# EAGLE library part A13 (library Allwinner)
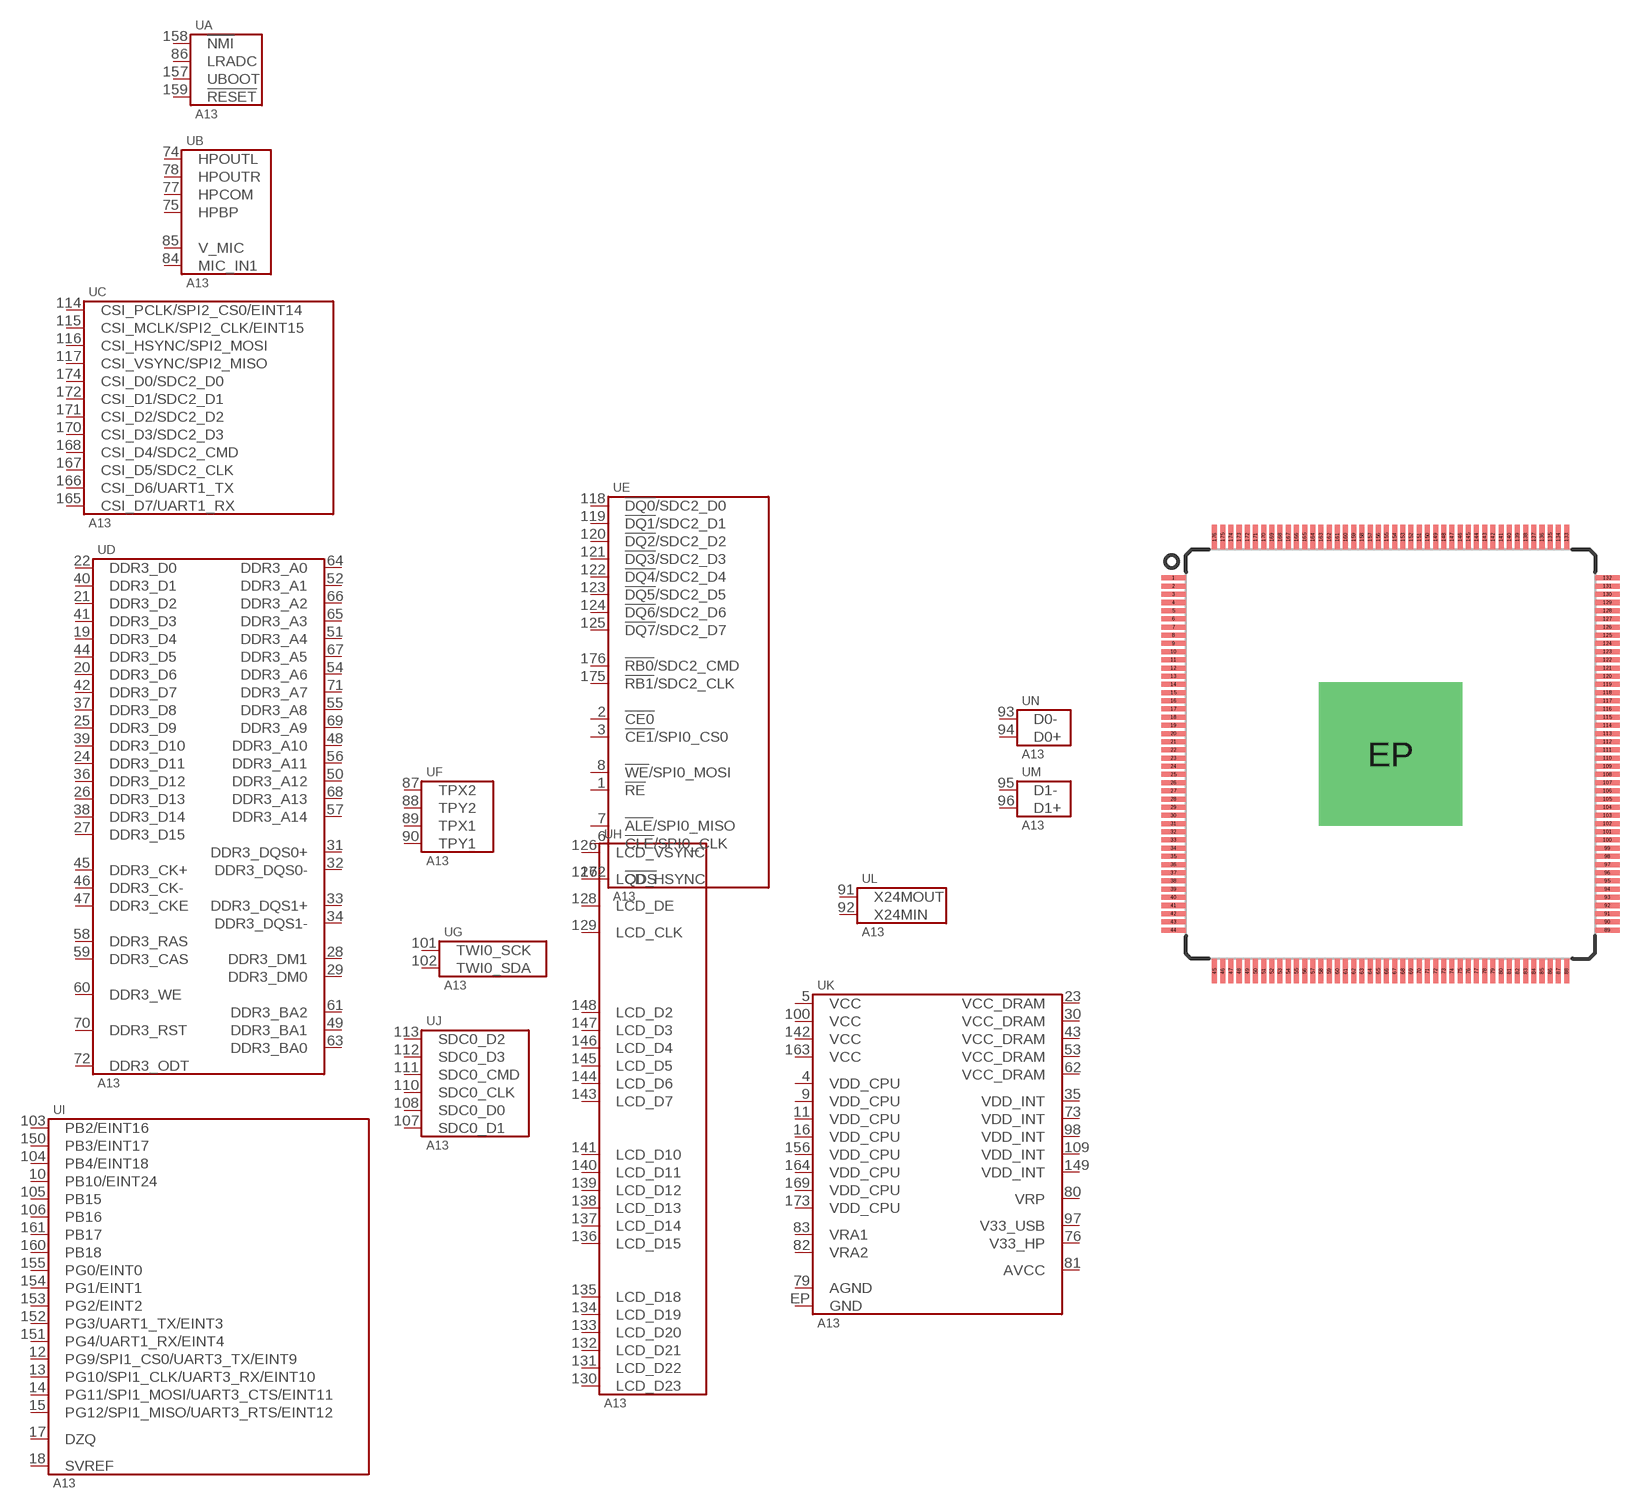
[diagram p0: symbol with the pads of A13; footprint A13]

Designator prefix U; gates A=A13 B=A13-AUDIO C=A13-CSI D=A13-DDR3 I=A13-GPIO G=A13-I2C H=A13-LCD E=A13-NAND L=A13-OSC K=A13-PWR F=A13-RTP J=A13-SDC0 N=A13-USB0 M=A13-USB1

## A13  [A13]
1  E:!RE
2  E:!CE0
3  E:!CE1!/SPI0_CS0
4  K:VDD_CPU
5  K:VCC
6  E:!CLE!/SPI0_CLK
7  E:!ALE!/SPI0_MISO
8  E:!WE!/SPI0_MOSI
9  K:VDD_CPU
10  I:PB10/EINT24
11  K:VDD_CPU
12  I:PG9/SPI1_CS0/UART3_TX/EINT9
13  I:PG10/SPI1_CLK/UART3_RX/EINT10
14  I:PG11/SPI1_MOSI/UART3_CTS/EINT11
15  I:PG12/SPI1_MISO/UART3_RTS/EINT12
16  K:VDD_CPU
17  I:DZQ
18  I:SVREF
19  D:DDR3_D4
20  D:DDR3_D6
21  D:DDR3_D2
22  D:DDR3_D0
23  K:VCC_DRAM
24  D:DDR3_D11
25  D:DDR3_D9
26  D:DDR3_D13
27  D:DDR3_D15
28  D:DDR3_DM1
29  D:DDR3_DM0
30  K:VCC_DRAM
31  D:DDR3_DQS0+
32  D:DDR3_DQS0-
33  D:DDR3_DQS1+
34  D:DDR3_DQS1-
35  K:VDD_INT
36  D:DDR3_D12
37  D:DDR3_D8
38  D:DDR3_D14
39  D:DDR3_D10
40  D:DDR3_D1
41  D:DDR3_D3
42  D:DDR3_D7
43  K:VCC_DRAM
44  D:DDR3_D5
45  D:DDR3_CK+
46  D:DDR3_CK-
47  D:DDR3_CKE
48  D:DDR3_A10
49  D:DDR3_BA1
50  D:DDR3_A12
51  D:DDR3_A4
52  D:DDR3_A1
53  K:VCC_DRAM
54  D:DDR3_A6
55  D:DDR3_A8
56  D:DDR3_A11
57  D:DDR3_A14
58  D:DDR3_RAS
59  D:DDR3_CAS
60  D:DDR3_WE
61  D:DDR3_BA2
62  K:VCC_DRAM
63  D:DDR3_BA0
64  D:DDR3_A0
65  D:DDR3_A3
66  D:DDR3_A2
67  D:DDR3_A5
68  D:DDR3_A13
69  D:DDR3_A9
70  D:DDR3_RST
71  D:DDR3_A7
72  D:DDR3_ODT
73  K:VDD_INT
74  B:HPOUTL
75  B:HPBP
76  K:V33_HP
77  B:HPCOM
78  B:HPOUTR
79  K:AGND
80  K:VRP
81  K:AVCC
82  K:VRA2
83  K:VRA1
84  B:MIC_IN1
85  B:V_MIC
86  A:LRADC
87  F:TPX2
88  F:TPY2
89  F:TPX1
90  F:TPY1
91  L:X24MOUT
92  L:X24MIN
93  N:D0-
94  N:D0+
95  M:D1-
96  M:D1+
97  K:V33_USB
98  K:VDD_INT
100  K:VCC
101  G:TWI0_SCK
102  G:TWI0_SDA
103  I:PB2/EINT16
104  I:PB4/EINT18
105  I:PB15
106  I:PB16
107  J:SDC0_D1
108  J:SDC0_D0
109  K:VDD_INT
110  J:SDC0_CLK
111  J:SDC0_CMD
112  J:SDC0_D3
113  J:SDC0_D2
114  C:CSI_PCLK/SPI2_CS0/EINT14
115  C:CSI_MCLK/SPI2_CLK/EINT15
116  C:CSI_HSYNC/SPI2_MOSI
117  C:CSI_VSYNC/SPI2_MISO
118  E:!DQ0!/SDC2_D0
119  E:!DQ1!/SDC2_D1
120  E:!DQ2!/SDC2_D2
121  E:!DQ3!/SDC2_D3
122  E:!DQ4!/SDC2_D4
123  E:!DQ5!/SDC2_D5
124  E:!DQ6!/SDC2_D6
125  E:!DQ7!/SDC2_D7
126  H:LCD_VSYNC
127  H:LCD_HSYNC
128  H:LCD_DE
129  H:LCD_CLK
130  H:LCD_D23
131  H:LCD_D22
132  H:LCD_D21
133  H:LCD_D20
134  H:LCD_D19
135  H:LCD_D18
136  H:LCD_D15
137  H:LCD_D14
138  H:LCD_D13
139  H:LCD_D12
140  H:LCD_D11
141  H:LCD_D10
142  K:VCC
143  H:LCD_D7
144  H:LCD_D6
145  H:LCD_D5
146  H:LCD_D4
147  H:LCD_D3
148  H:LCD_D2
149  K:VDD_INT
150  I:PB3/EINT17
151  I:PG4/UART1_RX/EINT4
152  I:PG3/UART1_TX/EINT3
153  I:PG2/EINT2
154  I:PG1/EINT1
155  I:PG0/EINT0
156  K:VDD_CPU
157  A:UBOOT
158  A:!NMI
159  A:!RESET
160  I:PB18
161  I:PB17
162  E:!QDS
163  K:VCC
164  K:VDD_CPU
165  C:CSI_D7/UART1_RX
166  C:CSI_D6/UART1_TX
167  C:CSI_D5/SDC2_CLK
168  C:CSI_D4/SDC2_CMD
169  K:VDD_CPU
170  C:CSI_D3/SDC2_D3
171  C:CSI_D2/SDC2_D2
172  C:CSI_D1/SDC2_D1
173  K:VDD_CPU
174  C:CSI_D0/SDC2_D0
175  E:!RB1!/SDC2_CLK
176  E:!RB0!/SDC2_CMD
EP  K:GND

## Footprint A13 (pad centres in mm)
smd 1.2 x 0.245: 1 -10.6,8.6; 2 -10.6,8.2; 3 -10.6,7.8; 4 -10.6,7.4; 5 -10.6,7; 6 -10.6,6.6; 7 -10.6,6.2; 8 -10.6,5.8; 9 -10.6,5.4; 10 -10.6,5; 11 -10.6,4.6; 12 -10.6,4.2; 13 -10.6,3.8; 14 -10.6,3.4; 15 -10.6,3; 16 -10.6,2.6; 17 -10.6,2.2; 18 -10.6,1.8; 19 -10.6,1.4; 20 -10.6,1; 21 -10.6,0.6; 22 -10.6,0.2; 23 -10.6,-0.2; 24 -10.6,-0.6; 25 -10.6,-1; 26 -10.6,-1.4; 27 -10.6,-1.8; 28 -10.6,-2.2; 29 -10.6,-2.6; 30 -10.6,-3; 31 -10.6,-3.4; 32 -10.6,-3.8; 33 -10.6,-4.2; 34 -10.6,-4.6; 35 -10.6,-5; 36 -10.6,-5.4; 37 -10.6,-5.8; 38 -10.6,-6.2; 39 -10.6,-6.6; 40 -10.6,-7; 41 -10.6,-7.4; 42 -10.6,-7.8; 43 -10.6,-8.2; 44 -10.6,-8.6; 89 10.6,-8.6; 90 10.6,-8.2; 91 10.6,-7.8; 92 10.6,-7.4; 93 10.6,-7; 94 10.6,-6.6; 95 10.6,-6.2; 96 10.6,-5.8; 97 10.6,-5.4; 98 10.6,-5; 99 10.6,-4.6; 100 10.6,-4.2; 101 10.6,-3.8; 102 10.6,-3.4; 103 10.6,-3; 104 10.6,-2.6; 105 10.6,-2.2; 106 10.6,-1.8; 107 10.6,-1.4; 108 10.6,-1; 109 10.6,-0.6; 110 10.6,-0.2; 111 10.6,0.2; 112 10.6,0.6; 113 10.6,1; 114 10.6,1.4; 115 10.6,1.8; 116 10.6,2.2; 117 10.6,2.6; 118 10.6,3; 119 10.6,3.4; 120 10.6,3.8; 121 10.6,4.2; 122 10.6,4.6; 123 10.6,5; 124 10.6,5.4; 125 10.6,5.8; 126 10.6,6.2; 127 10.6,6.6; 128 10.6,7; 129 10.6,7.4; 130 10.6,7.8; 131 10.6,8.2; 132 10.6,8.6
smd 0.245 x 1.2: 45 -8.6,-10.6; 46 -8.2,-10.6; 47 -7.8,-10.6; 48 -7.4,-10.6; 49 -7,-10.6; 50 -6.6,-10.6; 51 -6.2,-10.6; 52 -5.8,-10.6; 53 -5.4,-10.6; 54 -5,-10.6; 55 -4.6,-10.6; 56 -4.2,-10.6; 57 -3.8,-10.6; 58 -3.4,-10.6; 59 -3,-10.6; 60 -2.6,-10.6; 61 -2.2,-10.6; 62 -1.8,-10.6; 63 -1.4,-10.6; 64 -1,-10.6; 65 -0.6,-10.6; 66 -0.2,-10.6; 67 0.2,-10.6; 68 0.6,-10.6; 69 1,-10.6; 70 1.4,-10.6; 71 1.8,-10.6; 72 2.2,-10.6; 73 2.6,-10.6; 74 3,-10.6; 75 3.4,-10.6; 76 3.8,-10.6; 77 4.2,-10.6; 78 4.6,-10.6; 79 5,-10.6; 80 5.4,-10.6; 81 5.8,-10.6; 82 6.2,-10.6; 83 6.6,-10.6; 84 7,-10.6; 85 7.4,-10.6; 86 7.8,-10.6; 87 8.2,-10.6; 88 8.6,-10.6; 133 8.6,10.6; 134 8.2,10.6; 135 7.8,10.6; 136 7.4,10.6; 137 7,10.6; 138 6.6,10.6; 139 6.2,10.6; 140 5.8,10.6; 141 5.4,10.6; 142 5,10.6; 143 4.6,10.6; 144 4.2,10.6; 145 3.8,10.6; 146 3.4,10.6; 147 3,10.6; 148 2.6,10.6; 149 2.2,10.6; 150 1.8,10.6; 151 1.4,10.6; 152 1,10.6; 153 0.6,10.6; 154 0.2,10.6; 155 -0.2,10.6; 156 -0.6,10.6; 157 -1,10.6; 158 -1.4,10.6; 159 -1.8,10.6; 160 -2.2,10.6; 161 -2.6,10.6; 162 -3,10.6; 163 -3.4,10.6; 164 -3.8,10.6; 165 -4.2,10.6; 166 -4.6,10.6; 167 -5,10.6; 168 -5.4,10.6; 169 -5.8,10.6; 170 -6.2,10.6; 171 -6.6,10.6; 172 -7,10.6; 173 -7.4,10.6; 174 -7.8,10.6; 175 -8.2,10.6; 176 -8.6,10.6
drill 2 pad 7 square: EP 0,0